# Altium footprint library cSLIM-SA.PcbLib: 47 footprints (part 2 of 3)
Each footprint in its own frame and in the unit in brackets; x right, y up, seen from the top. Pads: shape width x height; smd on the part's side, far side on the other; paste and mask are expansions set on the pad; w line width, h text height; cw(c..) or ccw(c..) is an arc to the next point about the centre after c.
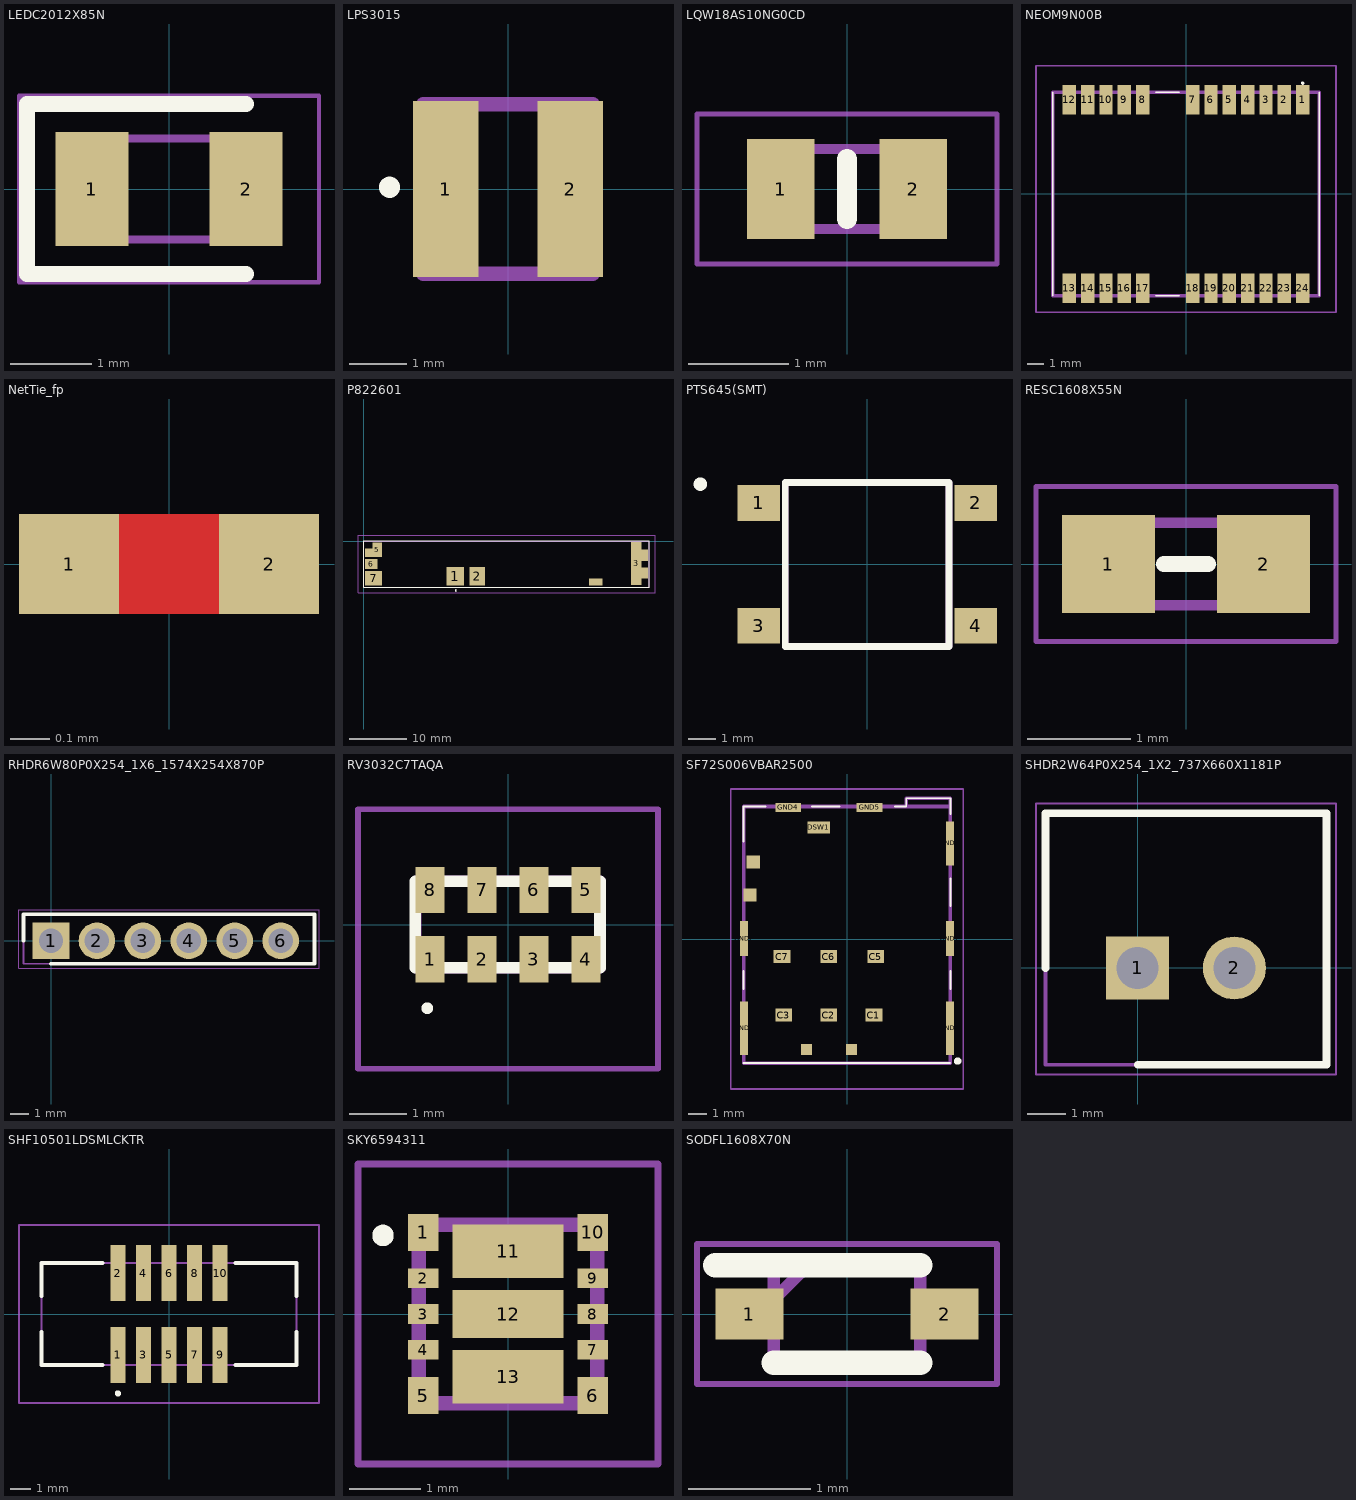
[diagram p1: the footprints below, top view; thin cyan lines are the x and y axes]

## LEDC2012X85N [mm]
pads (2):
  rect 0.9x1.4 smd: 1(-0.95,0) 2(0.95,0)
Top Overlay:
  lines w0.2: 0.95,-1.05 -1.75,-1.05 -1.75,1.05 0.95,1.05
Mechanical 13:
  lines w0.1: -1,0.208 -0.583,0.625 ; -1,-0.625 -1,0.625 1,0.625 1,-0.625 -1,-0.625
Mechanical 15:
  lines w0.05: -1.85,-1.15 -1.85,1.15 1.85,1.15 1.85,-1.15 -1.85,-1.15
3D body "APT2012LSYCK_J3-PRV.stp": height 0.77, standoff 0, extent -1.05,-0.625 0.99,0.625

## LPS3015 [mm]
pads (2):
  rect 1.14x3.05 smd: 1(-1.08,0) 2(1.08,0)
Top Overlay:
  circle w0.254: c-2.057,0.03 r0.057
Mechanical 13:
  lines w0.254: -1.475,-1.475 -1.475,1.475 1.475,1.475 1.475,-1.475 -1.475,-1.475

## LQW18AS10NG0CD [mm]
pads (2):
  rect 0.675x1 smd: 1(-0.662,0) 2(0.662,0)
Top Overlay:
  lines w0.2: 0,-0.3 0,0.3
Mechanical 13:
  lines w0.1: -0.8,-0.4 -0.8,0.4 0.8,0.4 0.8,-0.4 -0.8,-0.4
Mechanical 15:
  lines w0.05: -1.5,-0.75 -1.5,0.75 1.5,0.75 1.5,-0.75 -1.5,-0.75
3D body "LQW18AN9N1D0ZD.stp": height 1, standoff 0, extent -0.8,-0.4 0.8,0.4

## NEOM9N00B [mm] "NEO M9N GNSS"
pads (24):
  rect 0.8x1.781 smd: 1(7,5.65) 2(5.9,5.65) 3(4.8,5.65) 4(3.7,5.65) 5(2.6,5.65) 6(1.5,5.65) 7(0.4,5.65) 8(-2.6,5.65) 9(-3.7,5.65) 10(-4.8,5.65) 11(-5.9,5.65) 12(-7,5.65) 13(-7,-5.65) 14(-5.9,-5.65) 15(-4.8,-5.65) 16(-3.7,-5.65) 17(-2.6,-5.65) 18(0.4,-5.65) 19(1.5,-5.65) 20(2.6,-5.65) 21(3.7,-5.65) 22(4.8,-5.65) 23(5.9,-5.65) 24(7,-5.65)
Top Overlay:
  lines w0.1: -8,-6.1 -8,6.1 ; -1.8,-6.1 -0.4,-6.1 ; -1.8,6.1 -0.4,6.1 ; 8,-6.1 8,6.1 ; 7,6.6 ccw(c7,6.65) 7,6.7 ccw(c7,6.65) 7,6.6
Mechanical 13:
  lines w0.2: -8,-6.1 8,-6.1 8,6.1 -8,6.1 -8,-6.1
Mechanical 15:
  lines w0.1: -9,-7.1 9,-7.1 9,7.7 -9,7.7 -9,-7.1
3D body "NEO-M9N-00B.stp": height 2.7, standoff 0, extent -8,-6.1 8,6.1

## NetTie_fp [mil]
pads (2):
  rect 10x10 smd: 1(-10,0) 2(10,0)
Top Layer:
  lines w10: -5,0 5,0

## P822601 [mm]
pads (10):
  rect 3.1x3.2 smd: 1(15.9,-6.15)
  rect 2.73x3.2 smd: 2(19.715,-6.15)
  rect 1.8x7.5 smd: 3(47.35,-3.9)
  rect 2.4x1.2 smd: 4(40.3,-7.14)
  rect 1.65x2.5 smd: 5(2.325,-1.49)
  rect 2.1x1.7 smd: 6(1.3,-3.99)
  rect 2.9x2.5 smd: 7(1.7,-6.49)
  rect 1.25x1.4 smd: 8(0.875,-2.04)
  rect 1.1x1.95 smd: 9(48.8,-5.575)
  rect 1.1x2 smd: 10(48.8,-2.45)
Top Overlay:
  lines w0.1: 0,-7.99 49.6,-7.99 49.6,0.01 0,0.01 0,-7.99
  lines w0.2: 16,-8.69 cw(c16,-8.59) 16,-8.49 cw(c16,-8.59) 16,-8.69
Mechanical 13:
  lines w0.2: 0,-7.99 49.6,-7.99 49.6,0 0,0 0,-7.99
Mechanical 15:
  lines w0.1: -1,-8.99 50.6,-8.99 50.6,1.01 -1,1.01 -1,-8.99
3D body "P822601.stp": height 3.6, standoff 0, extent 0,-7.99 49.6,0

## PCBComponent_1 [mm]

## PTS645(SMT) [mm]
pads (4):
  rect 1.55x1.3 smd: 1(-3.975,2.25) 2(3.975,2.25) 3(-3.975,-2.25) 4(3.975,-2.25)
Top Overlay:
  circle w0.254: c-6.108,2.939 r0.121
  lines w0.254: -3,-3 -3,3 3,3 3,-3 -3,-3
Mechanical 13:
  lines w0.254: -3,-3 -3,3 3,3 3,-3 -3,-3
3D body "PTS645SM43SMTR92LFS.stp": height 4.3, standoff 0, extent -4.5,-3 4.5,3

## RESC1608X55N [mm]
pads (2):
  rect 0.9x0.95 smd: 1(-0.75,0) 2(0.75,0)
Top Overlay:
  lines w0.15: -0.216,0 0.216,0
Mechanical 13:
  lines w0.1: -0.775,-0.4 -0.775,0.4 0.775,0.4 0.775,-0.4 -0.775,-0.4
Mechanical 15:
  lines w0.05: -1.45,-0.75 -1.45,0.75 1.45,0.75 1.45,-0.75 -1.45,-0.75
3D body "CPF0603B4K75E1.stp": height 0.55, standoff 0, extent -0.775,-0.4 0.775,0.4

## RHDR6W80P0X254_1X6_1574X254X870P [mm]
pads (6):
  rect 2.025x2.025 hole 1.35: 1(0,0)
  round 2.025 hole 1.35: 2(2.54,0) 3(5.08,0) 4(7.62,0) 5(10.16,0) 6(12.7,0)
Top Overlay:
  lines w0.2: -1.52,0 -1.52,1.47 14.57,1.47 14.57,-1.27 0,-1.27
Mechanical 13:
  lines w0.1: -1.52,-1.27 14.57,-1.27 14.57,1.47 -1.52,1.47 -1.52,-1.27
Mechanical 15:
  lines w0.05: -1.77,-1.52 14.82,-1.52 14.82,1.72 -1.77,1.72 -1.77,-1.52
3D body "PPTC061LFBN-RC.stp": height 8.7, standoff -3.5, extent -1.52,-1.27 14.22,1.27

## RV3032C7TAQA [mm]
pads (8):
  rect 0.5x0.8 smd: 1(-1.35,-0.6) 2(-0.45,-0.6) 3(0.45,-0.6) 4(1.35,-0.6) 5(1.35,0.6) 6(0.45,0.6) 7(-0.45,0.6) 8(-1.35,0.6)
Top Overlay:
  lines w0.1: -1.4,-1.5 ccw(c-1.4,-1.45) -1.4,-1.4 ccw(c-1.4,-1.45) -1.4,-1.5
  lines w0.2: -1.605,-0.752 -1.605,0.748 1.595,0.748 1.595,-0.752 -1.605,-0.752
Mechanical 13:
  lines w0.2: -1.6,-0.75 -1.6,0.75 1.6,0.75 1.6,-0.75 -1.6,-0.75
Mechanical 15:
  lines w0.1: -2.6,-2.5 -2.6,2 2.6,2 2.6,-2.5 -2.6,-2.5
3D body "RV-3032-C7-TA-QC.stp": height 0.8, standoff 0, extent -1.6,-0.75 1.6,0.75

## SF72S006VBAR2500 [mm]
pads (18):
  rect 0.9x0.7 smd: C1(1.46,-4.125) C2(-0.98,-4.125) C3(-3.42,-4.125) C5(1.56,-0.955) C6(-0.98,-0.955) C7(-3.52,-0.955)
  rect 0.7x0.7 smd: CSW1(-5.25,2.375)
  rect 1.2x0.65 smd: DSW1(-1.53,6.05)
  rect 0.45x2.9 smd: GND1(-5.575,-4.825) GND8(5.575,-4.825)
  rect 0.45x1.9 smd: GND2(-5.575,0.025) GND7(5.575,0.025)
  rect 0.75x0.7 smd: GND3(-5.075,4.175)
  rect 1.4x0.5 smd: GND4(-3.18,7.125) GND5(1.22,7.125)
  rect 0.45x2.4 smd: GND6(5.575,5.175)
  rect 0.6x0.6 smd: GND9(0.24,-5.975) GND10(-2.2,-5.975)
Top Overlay:
  lines w0.1: -5.6,-6.725 5.575,-6.725 ; -5.6,-2.725 -5.6,-1.725 ; -5.6,5.275 -5.6,7.175 -4.4,7.175 ; -1.9,7.175 -0.4,7.175 ; 2.6,7.175 3.212,7.175 3.212,7.625 5.6,7.625 5.6,6.775 ; 5.6,-2.725 5.6,-1.725 ; 5.6,1.775 5.6,3.275
  lines w0.2: 6.096,-6.61 ccw(c5.996,-6.61) 5.896,-6.61 ccw(c5.996,-6.61) 6.096,-6.604
Mechanical 13:
  lines w0.2: 5.6,7.175 -5.6,7.175 -5.6,-6.725 5.6,-6.725 5.6,7.175 ; 5.6,7.175 3.212,7.175 3.212,7.625 5.6,7.625 5.6,7.175
Mechanical 15:
  lines w0.1: -6.3,-8.125 6.3,-8.125 6.3,8.125 -6.3,8.125 -6.3,-8.125
3D body "SF72S006VBAR2500.stp": height 1.26, standoff 0, extent -5.6,-6.745 5.6,7.605

## SHDR2W64P0X254_1X2_737X660X1181P [mm]
pads (2):
  rect 1.65x1.65 hole 1.1: 1(0,0)
  round 1.65 hole 1.1: 2(2.54,0)
Top Overlay:
  lines w0.2: -2.415,0 -2.415,4.06 4.955,4.06 4.955,-2.54 0,-2.54
Mechanical 13:
  lines w0.1: -2.415,-2.54 4.955,-2.54 4.955,4.06 -2.415,4.06 -2.415,-2.54
Mechanical 15:
  lines w0.05: -2.665,-2.79 5.205,-2.79 5.205,4.31 -2.665,4.31 -2.665,-2.79
3D body "70543-0001.stp": height 11.81, standoff -3.3, extent -2.415,-3.3 4.955,3.3

## SHF10501LDSMLCKTR [mm]
pads (10):
  rect 0.74x2.795 smd: 1(-2.54,-2.033) 2(-2.54,2.033) 3(-1.27,-2.033) 4(-1.27,2.033) 5(0,-2.033) 6(0,2.033) 7(1.27,-2.033) 8(1.27,2.033) 9(2.54,-2.033) 10(2.54,2.033)
Top Overlay:
  lines w0.2: -6.35,-0.9 -6.35,-2.54 -3.3,-2.54 ; -6.35,0.9 -6.35,2.54 -3.3,2.54 ; 3.3,-2.54 6.35,-2.54 6.35,-0.9 ; 3.3,2.54 6.35,2.54 6.35,0.9 ; -2.54,-4 ccw(c-2.54,-3.95) -2.54,-3.9 ; -2.54,-4 cw(c-2.54,-3.95) -2.54,-3.9 ; -2.54,-4 ccw(c-2.54,-3.95) -2.54,-3.9
Mechanical 13:
  lines w0.1: -6.35,-2.54 6.35,-2.54 6.35,2.54 -6.35,2.54 -6.35,-2.54
Mechanical 15:
  lines w0.1: -7.463,-4.43 7.463,-4.43 7.463,4.43 -7.463,4.43 -7.463,-4.43
3D body "SHF-105-01-L-D-SM-LC-K-TR.stp": height 5.43, standoff -1.7, extent -6.358,-3.357 6.362,3.357

## SKY6594311 [mm]
pads (13):
  rect 0.425x0.515 smd: 1(-1.188,1.143) 5(-1.188,-1.143) 6(1.188,-1.143) 10(1.188,1.143)
  rect 0.425x0.275 smd: 2(-1.188,0.5) 3(-1.188,0) 4(-1.188,-0.5) 7(1.188,-0.5) 8(1.188,0) 9(1.188,0.5)
  rect 1.55x0.745 smd: 11(0,0.878) 13(0,-0.877)
  rect 1.55x0.67 smd: 12(0,0)
Top Overlay:
  lines w0.2: -1.8,1.1 cw(c-1.75,1.1) -1.7,1.1 cw(c-1.75,1.1) -1.8,1.1
Mechanical 13:
  lines w0.2: -1.25,-1.25 1.25,-1.25 1.25,1.25 -1.25,1.25 -1.25,-1.25
Mechanical 15:
  lines w0.1: -2.1,-2.1 2.1,-2.1 2.1,2.1 -2.1,2.1 -2.1,-2.1
3D body "SKY65943-11.stp": height 0.8, standoff 0, extent -1.25,-1.25 1.25,1.25

## SODFL1608X70N [mm]
pads (2):
  rect 0.56x0.42 smd: 1(-0.8,0) 2(0.8,0)
Top Overlay:
  lines w0.2: -1.08,0.4 0.6,0.4 ; -0.6,-0.4 0.6,-0.4
Mechanical 13:
  lines w0.1: -0.6,0.12 -0.32,0.4 ; -0.6,-0.4 0.6,-0.4 0.6,0.4 -0.6,0.4 -0.6,-0.4
Mechanical 15:
  lines w0.05: -1.23,-0.575 1.23,-0.575 1.23,0.575 -1.23,0.575 -1.23,-0.575
3D body "1SS390SMFHT2R.stp": height 0.7, standoff 0, extent -0.8,-0.4 0.8,0.4